# Altium footprint library AMPHENOL_U77A461M2081.PcbLib: 1 footprints
Each footprint in its own frame and in the unit in brackets; x right, y up, seen from the top. Pads: shape width x height; smd on the part's side, far side on the other; paste and mask are expansions set on the pad; w line width, h text height; cw(c..) or ccw(c..) is an arc to the next point about the centre after c.
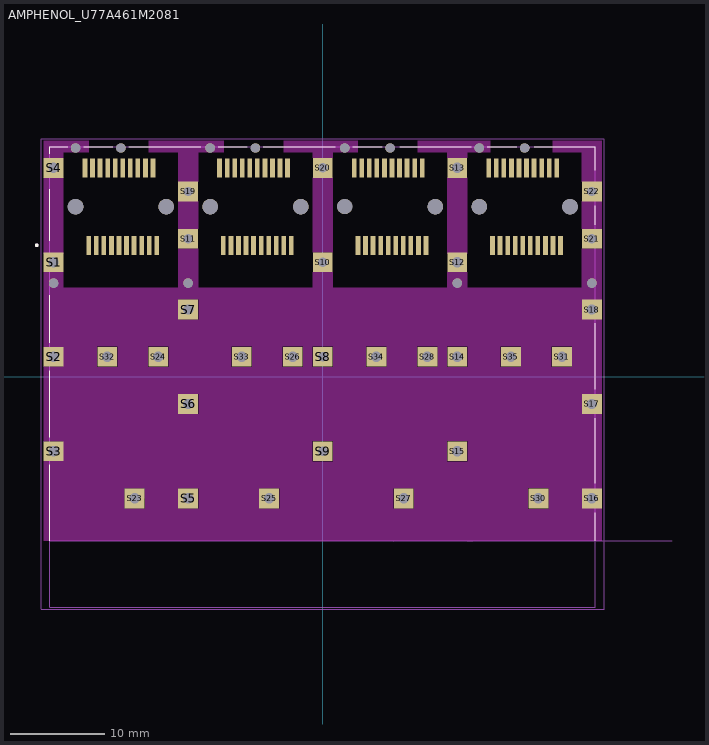
[diagram p0: the footprint, top view; thin cyan lines are the x and y axes]

## AMPHENOL_U77A461M2081 [mm]
pads (134):
  rect 0.5x2 smd: P1_1(-24.77,13.935) P1_2(-23.97,13.935) P1_3(-23.17,13.935) P1_4(-22.37,13.935) P1_5(-21.57,13.935) P1_6(-20.77,13.935) P1_7(-19.97,13.935) P1_8(-19.17,13.935) P1_9(-18.37,13.935) P1_10(-17.57,13.935) P1_11(-17.97,22.135) P1_12(-18.77,22.135) P1_13(-19.57,22.135) P1_14(-20.37,22.135) P1_15(-21.17,22.135) P1_16(-21.97,22.135) P1_17(-22.77,22.135) P1_18(-23.57,22.135) P1_19(-24.37,22.135) P1_20(-25.17,22.135) P2_1(-10.52,13.935) P2_2(-9.72,13.935) P2_3(-8.92,13.935) P2_4(-8.12,13.935) P2_5(-7.32,13.935) P2_6(-6.52,13.935) P2_7(-5.72,13.935) P2_8(-4.92,13.935) P2_9(-4.12,13.935) P2_10(-3.32,13.935) P2_11(-3.72,22.135) P2_12(-4.52,22.135) P2_13(-5.32,22.135) P2_14(-6.12,22.135) P2_15(-6.92,22.135) P2_16(-7.72,22.135) P2_17(-8.52,22.135) P2_18(-9.32,22.135) P2_19(-10.12,22.135) P2_20(-10.92,22.135) P3_1(3.73,13.935) P3_2(4.53,13.935) P3_3(5.33,13.935) P3_4(6.13,13.935) P3_5(6.93,13.935) P3_6(7.73,13.935) P3_7(8.53,13.935) P3_8(9.33,13.935) P3_9(10.13,13.935) P3_10(10.93,13.935) P3_11(10.53,22.135) P3_12(9.73,22.135) P3_13(8.93,22.135) P3_14(8.13,22.135) P3_15(7.33,22.135) P3_16(6.53,22.135) P3_17(5.73,22.135) P3_18(4.93,22.135) P3_19(4.13,22.135) P3_20(3.33,22.135) P4_1(17.98,13.935) P4_2(18.78,13.935) P4_3(19.58,13.935) P4_4(20.38,13.935) P4_5(21.18,13.935) P4_6(21.98,13.935) P4_7(22.78,13.935) P4_8(23.58,13.935) P4_9(24.38,13.935) P4_10(25.18,13.935) P4_11(24.78,22.135) P4_12(23.98,22.135) P4_13(23.18,22.135) P4_14(22.38,22.135) P4_15(21.58,22.135) P4_16(20.78,22.135) P4_17(19.98,22.135) P4_18(19.18,22.135) P4_19(18.38,22.135) P4_20(17.58,22.135)
  rect 2.1x2.1 / inner round 2.1 / far side rect 2.1x2.1 hole 1.1: S1(-28.5,12.135) S2(-28.5,2.135) S3(-28.5,-7.865) S4(-28.5,22.135) S5(-14.25,-12.865) S6(-14.25,-2.865) S7(-14.25,7.135) S12(14.25,12.135) S13(14.25,22.135) S14(14.25,2.135) S15(14.25,-7.865) S16(28.5,-12.865) S17(28.5,-2.865) S18(28.5,7.135) S23(-19.92,-12.865) S24(-17.42,2.135) S25(-5.67,-12.865) S26(-3.17,2.135) S27(8.58,-12.865) S28(11.08,2.135) S30(22.83,-12.865) S31(25.33,2.135) S32(-22.82,2.135) S33(-8.57,2.135) S34(5.68,2.135) S35(19.93,2.135)
  rect 2.1x2.1 / inner round 2.1 / far side rect 2.1x2.1 hole 1: S8(0,2.135) S9(0,-7.865) S10(0,12.135) S11(-14.25,14.635) S19(-14.25,19.635) S20(0,22.135) S21(28.5,14.635) S22(28.5,19.635)
  round 1 hole 1 unplated: ""(-28.5,9.935) ""(-26.17,24.235) ""(-21.37,24.235) ""(-14.25,9.935) ""(-11.92,24.235) ""(-7.12,24.235) ""(2.33,24.235) ""(7.13,24.235) ""(14.25,9.935) ""(16.58,24.235) ""(21.38,24.235) ""(28.5,9.935)
  round 1.65 hole 1.65 unplated: ""(-26.17,18.035) ""(-16.57,18.035) ""(-11.92,18.035) ""(-2.32,18.035) ""(11.93,18.035) ""(16.58,18.035) ""(26.18,18.035)
  round 1.6 hole 1.6 unplated: ""(2.33,18.035)
Top Overlay:
  circle w0.2: c-30.275,13.935 r0.1
  lines w0.127: -28.875,-17.365 -28.875,-9.315 ; -28.875,-6.365 -28.875,0.635 ; -28.875,3.635 -28.875,8.625 ; -28.875,14.415 -28.875,19.855 ; -28.875,23.635 -28.875,24.365 -27.02,24.365 ; -25.32,24.365 -22.22,24.365 ; -20.52,24.365 -14.98,24.365 ; -15.57,24.365 -12.92,24.365 ; -11.07,24.365 -7.97,24.365 ; -6.27,24.365 -3.17,24.365 ; -5.08,24.365 1.33,24.365 ; 3.18,24.365 6.28,24.365 ; 8.18,24.365 10.98,24.365 ; 10.39,24.365 15.73,24.365 ; 17.43,24.365 20.53,24.365 ; 22.38,24.365 27.72,24.365 ; 27.18,24.365 28.875,24.365 28.875,21.865 ; 28.875,-17.365 28.875,-14.365 ; 28.875,-11.265 28.875,-4.365 ; 28.875,-1.315 28.875,5.665 ; 28.875,16.135 28.875,18.135
Keep-Out Layer:
  region: 29.55,15.685 27.45,15.685 27.45,18.585 29.55,18.585
  region: 1.05,13.185 -1.05,13.185 -1.05,21.085 1.05,21.085
  region: -13.2,15.685 -15.3,15.685 -15.3,18.585 -13.2,18.585
  region: 14.5,-17.39 7.525,-17.39 7.525,-17.386
  region: 29.55,9.935 29.55,8.185 27.45,8.185 27.45,6.085 29.55,6.085 29.55,-1.815 27.45,-1.815 27.45,-3.915 29.55,-3.915 29.55,-11.815 27.45,-11.815 27.45,-13.915 29.55,-13.915 29.55,-17.365 15.825,-17.415 15.3,-17.415 15.3,-17.365 7.525,-17.365 7.525,-17.386 -29.55,-17.365 -29.55,-8.915 -27.45,-8.915 -27.45,-6.815 -29.55,-6.815 -29.55,1.085 -27.45,1.085 -27.45,3.185 -29.55,3.185 -29.55,9.935 -29.55,11.085 -27.45,11.085 -27.45,9.435 -15.3,9.435 -15.3,13.585 -13.2,13.585 -13.2,9.435 -1.05,9.435 -1.05,11.085 1.05,11.085 1.05,9.435 13.2,9.435 13.2,11.085 15.3,11.085 15.3,9.935 15.3,9.435 27.45,9.435 27.45,13.585 29.55,13.585 hole: -13.2,8.185 -15.3,8.185 -15.3,6.085 -13.2,6.085 hole: 26.375,3.185 24.275,3.185 24.275,1.085 26.375,1.085 hole: 20.975,3.185 18.875,3.185 18.875,1.085 20.975,1.085 hole: 15.3,3.185 13.2,3.185 13.2,1.085 15.3,1.085 hole: 12.125,3.185 10.025,3.185 10.025,1.085 12.125,1.085 hole: 6.725,3.185 4.625,3.185 4.625,1.085 6.725,1.085 hole: 1.05,3.185 -1.05,3.185 -1.05,1.085 1.05,1.085 hole: -2.1,3.185 -4.225,3.185 -4.225,1.085 -2.1,1.085 hole: -7.5,3.185 -9.625,3.185 -9.625,1.085 -7.5,1.085 hole: -16.35,3.21 -18.475,3.21 -18.475,1.085 -16.35,1.085 hole: -21.775,3.185 -23.875,3.185 -23.875,1.085 -21.775,1.085 hole: -13.2,-1.815 -15.3,-1.815 -15.3,-3.915 -13.2,-3.915 hole: 1.05,-6.815 -1.05,-6.815 -1.05,-8.915 1.05,-8.915 hole: 15.3,-6.815 13.2,-6.815 13.2,-8.915 14.5,-8.94 15.3,-8.94 hole: 9.625,-11.815 7.525,-11.815 7.525,-13.915 9.625,-13.915 hole: -4.6,-11.815 -6.725,-11.815 -6.725,-13.915 -4.6,-13.915 hole: -13.2,-11.815 -15.3,-11.815 -15.3,-13.915 -13.2,-13.915 hole: -18.875,-11.815 -20.975,-11.815 -20.975,-13.915 -18.85,-13.915 hole: 23.9,-11.79 21.775,-11.79 21.775,-13.94 23.9,-13.94
  region: -27.45,13.035 -29.55,13.035 -29.55,21.085 -27.45,21.085
  region: 15.3,13.035 13.2,13.035 13.2,21.085 15.3,21.085
  region: 17.73,23.785 15.3,23.785 15.3,23.185 13.2,23.185 13.2,23.785 10.08,23.785 10.08,24.985 17.73,24.985
  region: 29.55,20.685 27.45,20.685 27.45,23.785 24.38,23.785 24.38,24.985 29.55,24.985
  region: 3.73,23.785 1.05,23.785 1.05,23.185 -1.05,23.185 -1.05,23.785 -4.12,23.785 -4.12,24.985 3.73,24.985
  region: -10.5,23.785 -13.2,23.785 -13.2,20.685 -15.3,20.685 -15.3,23.785 -18.4,23.785 -18.4,24.985 -10.5,24.985
  region: -24.77,23.785 -27.45,23.785 -27.45,23.185 -29.55,23.185 -29.55,24.985 -24.77,24.985
Mechanical 13:
  circle w0.2: c-30.275,13.935 r0.1
  lines w0.127: 37,-17.365 -28.875,-17.365 ; -28.875,-17.365 -28.875,24.365 28.875,24.365 28.875,-24.365 -28.875,-24.365 -28.875,-17.365
  text "PCB EDGE" at 30,-17.09 h1.02
Mechanical 15:
  lines w0.05: -29.8,-24.615 29.8,-24.615 29.8,25.235 -29.8,25.235 -29.8,-24.615
3D body "step_temp.STEP": height 10.58, standoff -3.05, extent -29.505,-24.363 29.505,24.66